# Altium schematic symbol library DcDc_Converter_Sch.SchLib: 2 symbols
Pins are listed as number, name and electrical type; pins without a type are passive.

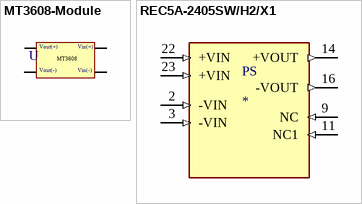
[diagram p0: symbols MT3608-Module to REC5A-2405SW/H2/X1]

## MT3608-Module
designator U
footprint MT3608-module
pins: 1 Vout(+), 2 Vout(-), 3 Vin(-), 4 Vin(+)
text: MT3608

## REC5A-2405SW/H2/X1
designator PS
5W DC/DC-Converter 'ECONOLINE' DIP24 2kV reg 2:1; MP: REC5A-2405SW/H2/X1; MF: Recom Power; Package: DIP-24 Recom Power; Value: *; SnapEDA_Link: https://www.snapeda.com/parts/REC5A-2405SW/H2/X1/Recom%20Power/view-part/3635437/?ref=snap; Availability: Unavailable; Price: None
footprint CONV_REC5A-2405SW/H2/X1
pins: 2 -VIN (in), 3 -VIN (in), 9 NC (in), 11 NC1 (in), 14 +VOUT (out), 16 -VOUT (out), 22 +VIN (in), 23 +VIN (in)